# Altium integrated library Wurth_Elektronik_Passive_rev16a.IntLib: 1143 symbols (part 10 of 28)
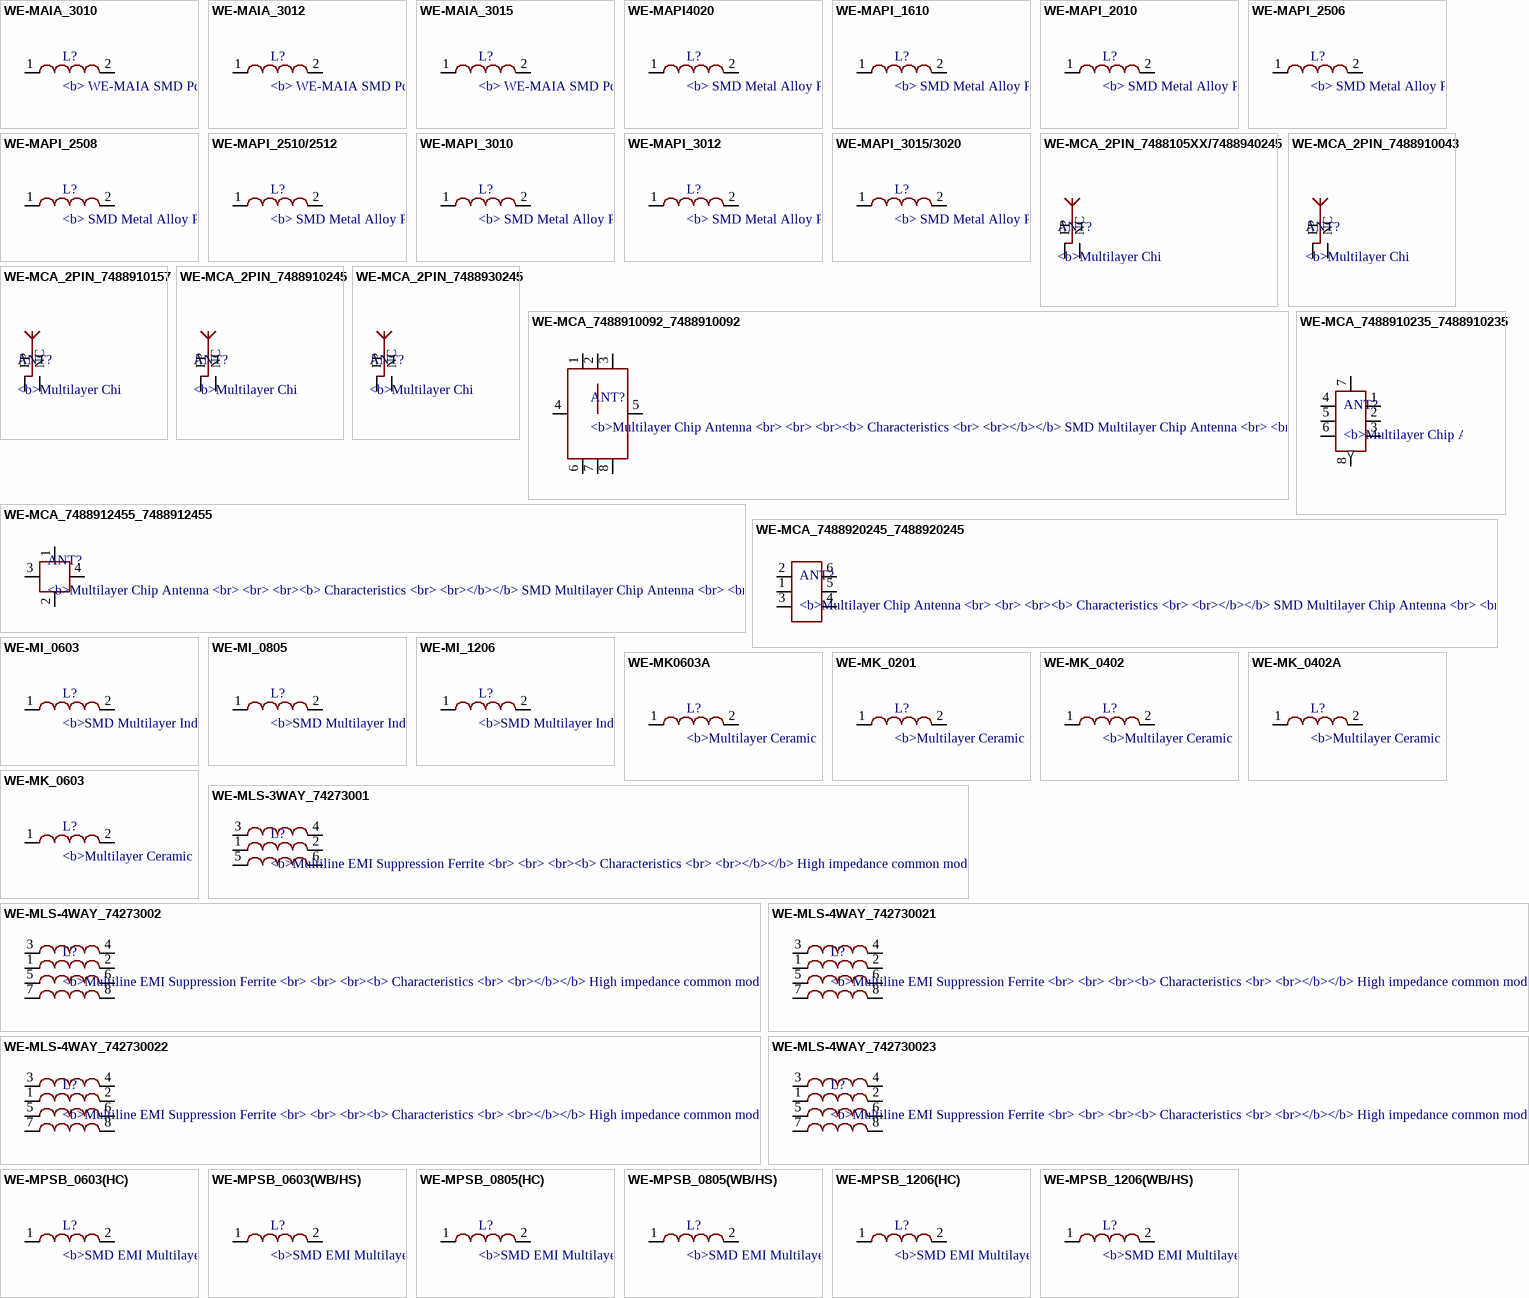
[diagram p67: symbols WE-MAIA_3010 to WE-MPSB_1206(WB/HS)]

## WE-MPSB_0603(WB/HS)
designator L?, comment <b>SMD EMI Multilayer Power Suppression Bead / <br> / <br> / <br><b> Characteristics / <br> / <br></b></b> High rated current up to 10 A / <br> / <br> Operating temperature: –55 ºC to +125 ºC / <br> / <br> Very low RDC / <br> / <br> / <br><b> Applications / <br> / <br></b> 77 EMI suppression of DC/DC converters and DC power supply / <br> / <br> / <br><b>Variant abbreviation</b><br> / <br> / WB means WIDE BAND<br> / HS means HIGH SPEED<br> / HC means HIGH CURRENT<br> / <br> / <br><a href="<br><a href="http://katalog.we-online.de/media/images/eisos/FeMPSB_pf2.jpg" title="Enlarge picture"> / <img src="http://katalog.we-online.de/media/images/eisos/FeMPSB_pf2.jpg" width="320"></a><p> / Details see: <a href="http://katalog.we-online.de/en/pbs/WE-MPSB?">http://katalog.we-online.de/en/pbs/WE-MPSB?</a><p> / Updated  by  Dan Xu 2014-07-08<br> / 2014 (C) Wurth Elektronik
footprint WE-MPSB_0603(W=2.2)
pins: 1, 2

## WE-MPSB_0805(HC)
designator L?, comment <b>SMD EMI Multilayer Power Suppression Bead / <br> / <br> / <br><b> Characteristics / <br> / <br></b></b> High rated current up to 10 A / <br> / <br> Operating temperature: –55 ºC to +125 ºC / <br> / <br> Very low RDC / <br> / <br> / <br><b> Applications / <br> / <br></b> 77 EMI suppression of DC/DC converters and DC power supply / <br> / <br> / <br><b>Variant abbreviation</b><br> / <br> / WB means WIDE BAND<br> / HS means HIGH SPEED<br> / HC means HIGH CURRENT<br> / <br> / <br><a href="<br><a href="http://katalog.we-online.de/media/images/eisos/FeMPSB_pf2.jpg" title="Enlarge picture"> / <img src="http://katalog.we-online.de/media/images/eisos/FeMPSB_pf2.jpg" width="320"></a><p> / Details see: <a href="http://katalog.we-online.de/en/pbs/WE-MPSB?">http://katalog.we-online.de/en/pbs/WE-MPSB?</a><p> / Updated  by  Dan Xu 2014-07-08<br> / 2014 (C) Wurth Elektronik
footprint WE-MPSB_0805(W=4.0)
pins: 1, 2

## WE-MPSB_0805(WB/HS)
designator L?, comment <b>SMD EMI Multilayer Power Suppression Bead / <br> / <br> / <br><b> Characteristics / <br> / <br></b></b> High rated current up to 10 A / <br> / <br> Operating temperature: –55 ºC to +125 ºC / <br> / <br> Very low RDC / <br> / <br> / <br><b> Applications / <br> / <br></b> 77 EMI suppression of DC/DC converters and DC power supply / <br> / <br> / <br><b>Variant abbreviation</b><br> / <br> / WB means WIDE BAND<br> / HS means HIGH SPEED<br> / HC means HIGH CURRENT<br> / <br> / <br><a href="<br><a href="http://katalog.we-online.de/media/images/eisos/FeMPSB_pf2.jpg" title="Enlarge picture"> / <img src="http://katalog.we-online.de/media/images/eisos/FeMPSB_pf2.jpg" width="320"></a><p> / Details see: <a href="http://katalog.we-online.de/en/pbs/WE-MPSB?">http://katalog.we-online.de/en/pbs/WE-MPSB?</a><p> / Updated  by  Dan Xu 2014-07-08<br> / 2014 (C) Wurth Elektronik
footprint WE-MPSB_0805(W=3.0)
pins: 1, 2

## WE-MPSB_1206(HC)
designator L?, comment <b>SMD EMI Multilayer Power Suppression Bead / <br> / <br> / <br><b> Characteristics / <br> / <br></b></b> High rated current up to 10 A / <br> / <br> Operating temperature: –55 ºC to +125 ºC / <br> / <br> Very low RDC / <br> / <br> / <br><b> Applications / <br> / <br></b> 77 EMI suppression of DC/DC converters and DC power supply / <br> / <br> / <br><b>Variant abbreviation</b><br> / <br> / WB means WIDE BAND<br> / HS means HIGH SPEED<br> / HC means HIGH CURRENT<br> / <br> / <br><a href="<br><a href="http://katalog.we-online.de/media/images/eisos/FeMPSB_pf2.jpg" title="Enlarge picture"> / <img src="http://katalog.we-online.de/media/images/eisos/FeMPSB_pf2.jpg" width="320"></a><p> / Details see: <a href="http://katalog.we-online.de/en/pbs/WE-MPSB?">http://katalog.we-online.de/en/pbs/WE-MPSB?</a><p> / Updated  by  Dan Xu 2014-07-08<br> / 2014 (C) Wurth Elektronik
footprint WE-MPSB_1206(W=5.2)
pins: 1, 2

## WE-MPSB_1206(WB/HS)
designator L?, comment <b>SMD EMI Multilayer Power Suppression Bead / <br> / <br> / <br><b> Characteristics / <br> / <br></b></b> High rated current up to 10 A / <br> / <br> Operating temperature: –55 ºC to +125 ºC / <br> / <br> Very low RDC / <br> / <br> / <br><b> Applications / <br> / <br></b> 77 EMI suppression of DC/DC converters and DC power supply / <br> / <br> / <br><b>Variant abbreviation</b><br> / <br> / WB means WIDE BAND<br> / HS means HIGH SPEED<br> / HC means HIGH CURRENT<br> / <br> / <br><a href="<br><a href="http://katalog.we-online.de/media/images/eisos/FeMPSB_pf2.jpg" title="Enlarge picture"> / <img src="http://katalog.we-online.de/media/images/eisos/FeMPSB_pf2.jpg" width="320"></a><p> / Details see: <a href="http://katalog.we-online.de/en/pbs/WE-MPSB?">http://katalog.we-online.de/en/pbs/WE-MPSB?</a><p> / Updated  by  Dan Xu 2014-07-08<br> / 2014 (C) Wurth Elektronik
footprint WE-MPSB_1206(W=4.2)
pins: 1, 2

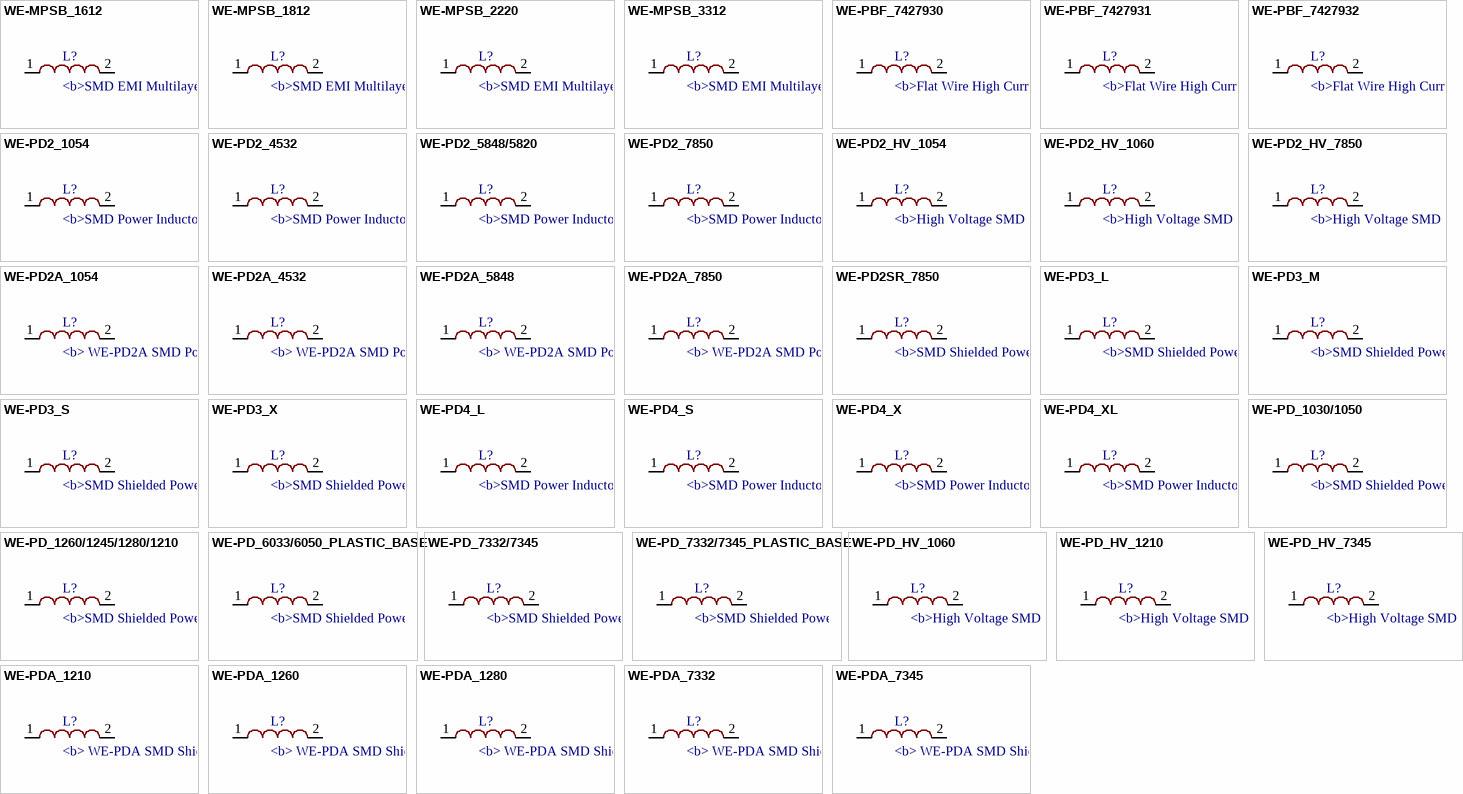
[diagram p24: symbols WE-MPSB_1612 to WE-PDA_7345]

## WE-MPSB_1612
designator L?, comment <b>SMD EMI Multilayer Power Suppression Bead / <br> / <br> / <br><b> Characteristics / <br> / <br></b></b> High rated current up to 10 A / <br> / <br> Operating temperature: –55 ºC to +125 ºC / <br> / <br> Very low RDC / <br> / <br> / <br><b> Applications / <br> / <br></b> 77 EMI suppression of DC/DC converters and DC power supply / <br> / <br> / <br><b>Variant abbreviation</b><br> / <br> / WB means WIDE BAND<br> / HS means HIGH SPEED<br> / HC means HIGH CURRENT<br> / <br> / <br><a href="<br><a href="http://katalog.we-online.de/media/images/eisos/FeMPSB_pf2.jpg" title="Enlarge picture"> / <img src="http://katalog.we-online.de/media/images/eisos/FeMPSB_pf2.jpg" width="320"></a><p> / Details see: <a href="http://katalog.we-online.de/en/pbs/WE-MPSB?">http://katalog.we-online.de/en/pbs/WE-MPSB?</a><p> / Updated  by  Dan Xu 2014-07-08<br> / 2014 (C) Wurth Elektronik
footprint WE-MPSB_1612
pins: 1, 2

## WE-MPSB_1812
designator L?, comment <b>SMD EMI Multilayer Power Suppression Bead / <br> / <br> / <br><b> Characteristics / <br> / <br></b></b> High rated current up to 10 A / <br> / <br> Operating temperature: –55 ºC to +125 ºC / <br> / <br> Very low RDC / <br> / <br> / <br><b> Applications / <br> / <br></b> 77 EMI suppression of DC/DC converters and DC power supply / <br> / <br> / <br><b>Variant abbreviation</b><br> / <br> / WB means WIDE BAND<br> / HS means HIGH SPEED<br> / HC means HIGH CURRENT<br> / <br> / <br><a href="<br><a href="http://katalog.we-online.de/media/images/eisos/FeMPSB_pf2.jpg" title="Enlarge picture"> / <img src="http://katalog.we-online.de/media/images/eisos/FeMPSB_pf2.jpg" width="320"></a><p> / Details see: <a href="http://katalog.we-online.de/en/pbs/WE-MPSB?">http://katalog.we-online.de/en/pbs/WE-MPSB?</a><p> / Updated  by  Dan Xu 2014-07-08<br> / 2014 (C) Wurth Elektronik
footprint WE-MPSB_1812
pins: 1, 2

## WE-MPSB_2220
designator L?, comment <b>SMD EMI Multilayer Power Suppression Bead / <br> / <br> / <br><b> Characteristics / <br> / <br></b></b> High rated current up to 10 A / <br> / <br> Operating temperature: –55 ºC to +125 ºC / <br> / <br> Very low RDC / <br> / <br> / <br><b> Applications / <br> / <br></b> 77 EMI suppression of DC/DC converters and DC power supply / <br> / <br> / <br><b>Variant abbreviation</b><br> / <br> / WB means WIDE BAND<br> / HS means HIGH SPEED<br> / HC means HIGH CURRENT<br> / <br> / <br><a href="<br><a href="http://katalog.we-online.de/media/images/eisos/FeMPSB_pf2.jpg" title="Enlarge picture"> / <img src="http://katalog.we-online.de/media/images/eisos/FeMPSB_pf2.jpg" width="320"></a><p> / Details see: <a href="http://katalog.we-online.de/en/pbs/WE-MPSB?">http://katalog.we-online.de/en/pbs/WE-MPSB?</a><p> / Updated  by  Dan Xu 2014-07-08<br> / 2014 (C) Wurth Elektronik
footprint WE-MPSB_2220
pins: 1, 2

## WE-MPSB_3312
designator L?, comment <b>SMD EMI Multilayer Power Suppression Bead / <br> / <br> / <br><b> Characteristics / <br> / <br></b></b> High rated current up to 10 A / <br> / <br> Operating temperature: –55 ºC to +125 ºC / <br> / <br> Very low RDC / <br> / <br> / <br><b> Applications / <br> / <br></b> 77 EMI suppression of DC/DC converters and DC power supply / <br> / <br> / <br><b>Variant abbreviation</b><br> / <br> / WB means WIDE BAND<br> / HS means HIGH SPEED<br> / HC means HIGH CURRENT<br> / <br> / <br><a href="<br><a href="http://katalog.we-online.de/media/images/eisos/FeMPSB_pf2.jpg" title="Enlarge picture"> / <img src="http://katalog.we-online.de/media/images/eisos/FeMPSB_pf2.jpg" width="320"></a><p> / Details see: <a href="http://katalog.we-online.de/en/pbs/WE-MPSB?">http://katalog.we-online.de/en/pbs/WE-MPSB?</a><p> / Updated  by  Dan Xu 2014-07-08<br> / 2014 (C) Wurth Elektronik
footprint WE-MPSB_3312
pins: 1, 2

## WE-PBF_7427930
designator L?, comment <b>Flat Wire High Current SMD Ferrite Bead / <br> / <br> / <br><b> Characteristics / <br> / <br></b></b> Flat wire / <br> / <br> Suitable for applications with high currents up to 6 A / <br> / <br> Glued version: High mechanical stability / <br> / <br> Operating temperature: –55 ºC to +125 ºC / <br> / <br> / <br><b> Applications / <br> / <br></b> Voltage supply for high load current / <br> / <br> Glued version: Especially for applications with permanent vibrations / <br> / <br> / <br> / <br><a href="<br><a href="http://katalog.we-online.de/media/images/eisos/FePBF_pf2.jpg" title="Enlarge picture"> / <img src="http://katalog.we-online.de/media/images/eisos/FePBF_pf2.jpg" width="320"></a><p> / Details see: <a href="http://katalog.we-online.de/en/pbs/WE-PBF?">http://katalog.we-online.de/en/pbs/WE-PBF?</a><p> / Updated  by  Dan Xu 2014-07-08<br> / 2014 (C) Wurth Elektronik
footprint WE-PBF_7427930
pins: 1, 2

## WE-PBF_7427931
designator L?, comment <b>Flat Wire High Current SMD Ferrite Bead / <br> / <br> / <br><b> Characteristics / <br> / <br></b></b> Flat wire / <br> / <br> Suitable for applications with high currents up to 6 A / <br> / <br> Glued version: High mechanical stability / <br> / <br> Operating temperature: –55 ºC to +125 ºC / <br> / <br> / <br><b> Applications / <br> / <br></b> Voltage supply for high load current / <br> / <br> Glued version: Especially for applications with permanent vibrations / <br> / <br> / <br> / <br><a href="<br><a href="http://katalog.we-online.de/media/images/eisos/FePBF_pf2.jpg" title="Enlarge picture"> / <img src="http://katalog.we-online.de/media/images/eisos/FePBF_pf2.jpg" width="320"></a><p> / Details see: <a href="http://katalog.we-online.de/en/pbs/WE-PBF?">http://katalog.we-online.de/en/pbs/WE-PBF?</a><p> / Updated  by  Dan Xu 2014-07-08<br> / 2014 (C) Wurth Elektronik
footprint WE-PBF_7427931
pins: 1, 2

## WE-PBF_7427932
designator L?, comment <b>Flat Wire High Current SMD Ferrite Bead / <br> / <br> / <br><b> Characteristics / <br> / <br></b></b> Flat wire / <br> / <br> Suitable for applications with high currents up to 6 A / <br> / <br> Glued version: High mechanical stability / <br> / <br> Operating temperature: –55 ºC to +125 ºC / <br> / <br> / <br><b> Applications / <br> / <br></b> Voltage supply for high load current / <br> / <br> Glued version: Especially for applications with permanent vibrations / <br> / <br> / <br> / <br><a href="<br><a href="http://katalog.we-online.de/media/images/eisos/FePBF_pf2.jpg" title="Enlarge picture"> / <img src="http://katalog.we-online.de/media/images/eisos/FePBF_pf2.jpg" width="320"></a><p> / Details see: <a href="http://katalog.we-online.de/en/pbs/WE-PBF?">http://katalog.we-online.de/en/pbs/WE-PBF?</a><p> / Updated  by  Dan Xu 2014-07-08<br> / 2014 (C) Wurth Elektronik
footprint WE-PBF_7427932
pins: 1, 2

## WE-PD2_1054
designator L?, comment <b>SMD Power Inductor / <br> / <br> / <br><b> Characteristics / <br> / <br></b></b> Open size / <br> / <br> Saturation currents up to 14 A / <br> / <br> Low tolerances at high inductance values / <br> / <br> Operating temperature: –40 °C to +125 °C / <br> / <br> / <br><b> Applications / <br> / <br></b> Integrated DC/DC-converter / <br> / <br> Switching regulators with low operating voltages (Graphic cards, embedded PC-Cards, Mainboards) / <br> / <br> Optimal attenuation in MHz frequency range / <br> / <br> / <br> / <br><a href="<br><a href="http://katalog.we-online.de/media/images/eisos/IndPD2_pf2.jpg" title="Enlarge picture"> / <img src="http://katalog.we-online.de/media/images/eisos/IndPD2_pf2.jpg" width="320"></a><p> / Details see: <a href="http://katalog.we-online.de/en/pbs/WE-PD2?">http://katalog.we-online.de/en/pbs/WE-PD2?</a><p> / Updated  by  Dan Xu 2014-07-08<br> / 2014 (C) Wurth Elektronik
footprint WE-PD2_1054
pins: 1, 2

## WE-PD2_4532
designator L?, comment <b>SMD Power Inductor / <br> / <br> / <br><b> Characteristics / <br> / <br></b></b> Open size / <br> / <br> Saturation currents up to 14 A / <br> / <br> Low tolerances at high inductance values / <br> / <br> Operating temperature: –40 °C to +125 °C / <br> / <br> / <br><b> Applications / <br> / <br></b> Integrated DC/DC-converter / <br> / <br> Switching regulators with low operating voltages (Graphic cards, embedded PC-Cards, Mainboards) / <br> / <br> Optimal attenuation in MHz frequency range / <br> / <br> / <br> / <br><a href="<br><a href="http://katalog.we-online.de/media/images/eisos/IndPD2_pf2.jpg" title="Enlarge picture"> / <img src="http://katalog.we-online.de/media/images/eisos/IndPD2_pf2.jpg" width="320"></a><p> / Details see: <a href="http://katalog.we-online.de/en/pbs/WE-PD2?">http://katalog.we-online.de/en/pbs/WE-PD2?</a><p> / Updated  by  Dan Xu 2014-07-08<br> / 2014 (C) Wurth Elektronik
footprint WE-PD2_4532
pins: 1, 2

## WE-PD2_5848/5820
designator L?, comment <b>SMD Power Inductor / <br> / <br> / <br><b> Characteristics / <br> / <br></b></b> Open size / <br> / <br> Saturation currents up to 14 A / <br> / <br> Low tolerances at high inductance values / <br> / <br> Operating temperature: –40 °C to +125 °C / <br> / <br> / <br><b> Applications / <br> / <br></b> Integrated DC/DC-converter / <br> / <br> Switching regulators with low operating voltages (Graphic cards, embedded PC-Cards, Mainboards) / <br> / <br> Optimal attenuation in MHz frequency range / <br> / <br> / <br> / <br><a href="<br><a href="http://katalog.we-online.de/media/images/eisos/IndPD2_pf2.jpg" title="Enlarge picture"> / <img src="http://katalog.we-online.de/media/images/eisos/IndPD2_pf2.jpg" width="320"></a><p> / Details see: <a href="http://katalog.we-online.de/en/pbs/WE-PD2?">http://katalog.we-online.de/en/pbs/WE-PD2?</a><p> / Updated  by  Dan Xu 2014-07-08<br> / 2014 (C) Wurth Elektronik
footprint WE-PD2_5848/5820
pins: 1, 2

## WE-PD2_7850
designator L?, comment <b>SMD Power Inductor / <br> / <br> / <br><b> Characteristics / <br> / <br></b></b> Open size / <br> / <br> Saturation currents up to 14 A / <br> / <br> Low tolerances at high inductance values / <br> / <br> Operating temperature: –40 °C to +125 °C / <br> / <br> / <br><b> Applications / <br> / <br></b> Integrated DC/DC-converter / <br> / <br> Switching regulators with low operating voltages (Graphic cards, embedded PC-Cards, Mainboards) / <br> / <br> Optimal attenuation in MHz frequency range / <br> / <br> / <br> / <br><a href="<br><a href="http://katalog.we-online.de/media/images/eisos/IndPD2_pf2.jpg" title="Enlarge picture"> / <img src="http://katalog.we-online.de/media/images/eisos/IndPD2_pf2.jpg" width="320"></a><p> / Details see: <a href="http://katalog.we-online.de/en/pbs/WE-PD2?">http://katalog.we-online.de/en/pbs/WE-PD2?</a><p> / Updated  by  Dan Xu 2014-07-08<br> / 2014 (C) Wurth Elektronik
footprint WE-PD2_7850
pins: 1, 2

## WE-PD2_HV_1054
designator L?, comment <b>High Voltage SMD Power Inductor / <br> / <br> / <br><b> Characteristics / <br> / <br></b></b> Unshielded construction / <br> / <br> Designed for 400 VDC / <br> / <br> Operating temperature: –40 °C to +125 °C / <br> / <br> / <br><b> Applications / <br> / <br></b> Non-isolated buck or buck-boost converter like Power Integrations LinkSwitch-TN / <br> / <br> Constant current LED driver / <br> / <br> Utility metering / <br> / <br> Filter for power supply / <br> / <br> / <br> / <br><a href="<br><a href="http://katalog.we-online.de/media/images/eisos/IndPD2_pf2.jpg" title="Enlarge picture"> / <img src="http://katalog.we-online.de/media/images/eisos/IndPD2_pf2.jpg" width="320"></a><p> / Details see: <a href="http://katalog.we-online.de/en/pbs/WE-PD2_HV?">http://katalog.we-online.de/en/pbs/WE-PD2_HV?</a><p> / Updated  by  Dan Xu 2014-07-08<br> / 2014 (C) Wurth Elektronik
MANUFACTURER: Würth Elektronik eiSos GmbH; CREATED-BY: Christin Otto; COMPANY-URL: http://we-online.de; CREATED-DATE: August 2013; DATASHEET-URL: http://katalog.we-online.de/de/pbs/WE-PD2_HV?sid=1d9d32b2a9#vs_ct:2
footprint WE-PD2_1054
pins: 1, 2

## WE-PD2_HV_1060
designator L?, comment <b>High Voltage SMD Power Inductor / <br> / <br> / <br><b> Characteristics / <br> / <br></b></b> Unshielded construction / <br> / <br> Designed for 400 VDC / <br> / <br> Operating temperature: –40 °C to +125 °C / <br> / <br> / <br><b> Applications / <br> / <br></b> Non-isolated buck or buck-boost converter like Power Integrations LinkSwitch-TN / <br> / <br> Constant current LED driver / <br> / <br> Utility metering / <br> / <br> Filter for power supply / <br> / <br> / <br> / <br><a href="<br><a href="http://katalog.we-online.de/media/images/eisos/IndPD2_pf2.jpg" title="Enlarge picture"> / <img src="http://katalog.we-online.de/media/images/eisos/IndPD2_pf2.jpg" width="320"></a><p> / Details see: <a href="http://katalog.we-online.de/en/pbs/WE-PD2_HV?">http://katalog.we-online.de/en/pbs/WE-PD2_HV?</a><p> / Updated  by  Dan Xu 2014-07-08<br> / 2014 (C) Wurth Elektronik
footprint WE-PD2_HV_1060
pins: 1, 2

## WE-PD2_HV_7850
designator L?, comment <b>High Voltage SMD Power Inductor / <br> / <br> / <br><b> Characteristics / <br> / <br></b></b> Unshielded construction / <br> / <br> Designed for 400 VDC / <br> / <br> Operating temperature: –40 °C to +125 °C / <br> / <br> / <br><b> Applications / <br> / <br></b> Non-isolated buck or buck-boost converter like Power Integrations LinkSwitch-TN / <br> / <br> Constant current LED driver / <br> / <br> Utility metering / <br> / <br> Filter for power supply / <br> / <br> / <br> / <br><a href="<br><a href="http://katalog.we-online.de/media/images/eisos/IndPD2_pf2.jpg" title="Enlarge picture"> / <img src="http://katalog.we-online.de/media/images/eisos/IndPD2_pf2.jpg" width="320"></a><p> / Details see: <a href="http://katalog.we-online.de/en/pbs/WE-PD2_HV?">http://katalog.we-online.de/en/pbs/WE-PD2_HV?</a><p> / Updated  by  Dan Xu 2014-07-08<br> / 2014 (C) Wurth Elektronik
MANUFACTURER: Würth Elektronik eiSos GmbH; CREATED-BY: Christin Otto; COMPANY-URL: http://we-online.de; CREATED-DATE: August 2013; DATASHEET-URL: http://katalog.we-online.de/de/pbs/WE-PD2_HV?sid=27407868f1#vs_ct:1
footprint WE-PD2_7850
pins: 1, 2

## WE-PD2A_1054
designator L?, comment <b> WE-PD2A SMD Power Inductor / <br> / <br><b>Characteristics / </b> / </b><br>Open size / <br>Current capability up to 14A / <br>Operating temperature:-40°C  to 125°C / <br>Recommended soder profile: Reflow / <br> / <br><b>Applications / </b><br>switching regulators with low operating voltage (navigation system, air conditioning, entertainment, park assistance control) / <br>Integrated DC/DC-converter / <br>Perfectly suitable for switching regulators with extremely high efficiency / <br> / <br><a href="http://katalog.we-online.de/media/images/eisos/IndPD2A_pf2.jpg" title="Enlarge picture"> / <img src="http://katalog.we-online.de/media/thumbs2/eisos/thb_IndPD2A_pf2.jpg" width="320"></a><p> / Details see: <a href="http://katalog.we-online.de/en/pbs/WE-PD2A/">http://katalog.we-online.de/en/pbs/WE-PD2A/ / </a><p>Created: 2015-02-04 / <br>2015 (C) Wurth Elektronik
footprint WE-PD2A_1054
pins: 1, 2

## WE-PD2A_4532
designator L?, comment <b> WE-PD2A SMD Power Inductor / <br> / <br><b>Characteristics / </b> / </b><br>Open size / <br>Current capability up to 14A / <br>Operating temperature:-40°C  to 125°C / <br>Recommended soder profile: Reflow / <br> / <br><b>Applications / </b><br>switching regulators with low operating voltage (navigation system, air conditioning, entertainment, park assistance control) / <br>Integrated DC/DC-converter / <br>Perfectly suitable for switching regulators with extremely high efficiency / <br> / <br><a href="http://katalog.we-online.de/media/images/eisos/IndPD2A_pf2.jpg" title="Enlarge picture"> / <img src="http://katalog.we-online.de/media/thumbs2/eisos/thb_IndPD2A_pf2.jpg" width="320"></a><p> / Details see: <a href="http://katalog.we-online.de/en/pbs/WE-PD2A/">http://katalog.we-online.de/en/pbs/WE-PD2A/ / </a><p>Created: 2015-02-04 / <br>2015 (C) Wurth Elektronik
footprint WE-PD2A_4532
pins: 1, 2

## WE-PD2A_5848
designator L?, comment <b> WE-PD2A SMD Power Inductor / <br> / <br><b>Characteristics / </b> / </b><br>Open size / <br>Current capability up to 14A / <br>Operating temperature:-40°C  to 125°C / <br>Recommended soder profile: Reflow / <br> / <br><b>Applications / </b><br>switching regulators with low operating voltage (navigation system, air conditioning, entertainment, park assistance control) / <br>Integrated DC/DC-converter / <br>Perfectly suitable for switching regulators with extremely high efficiency / <br> / <br><a href="http://katalog.we-online.de/media/images/eisos/IndPD2A_pf2.jpg" title="Enlarge picture"> / <img src="http://katalog.we-online.de/media/thumbs2/eisos/thb_IndPD2A_pf2.jpg" width="320"></a><p> / Details see: <a href="http://katalog.we-online.de/en/pbs/WE-PD2A/">http://katalog.we-online.de/en/pbs/WE-PD2A/ / </a><p>Created: 2015-02-04 / <br>2015 (C) Wurth Elektronik
footprint WE-PD2A_5848
pins: 1, 2

## WE-PD2A_7850
designator L?, comment <b> WE-PD2A SMD Power Inductor / <br> / <br><b>Characteristics / </b> / </b><br>Open size / <br>Current capability up to 14A / <br>Operating temperature:-40°C  to 125°C / <br>Recommended soder profile: Reflow / <br> / <br><b>Applications / </b><br>switching regulators with low operating voltage (navigation system, air conditioning, entertainment, park assistance control) / <br>Integrated DC/DC-converter / <br>Perfectly suitable for switching regulators with extremely high efficiency / <br> / <br><a href="http://katalog.we-online.de/media/images/eisos/IndPD2A_pf2.jpg" title="Enlarge picture"> / <img src="http://katalog.we-online.de/media/thumbs2/eisos/thb_IndPD2A_pf2.jpg" width="320"></a><p> / Details see: <a href="http://katalog.we-online.de/en/pbs/WE-PD2A/">http://katalog.we-online.de/en/pbs/WE-PD2A/ / </a><p>Created: 2015-02-04 / <br>2015 (C) Wurth Elektronik
footprint WE-PD2A_7850
pins: 1, 2

## WE-PD2SR_7850
designator L?, comment <b>SMD Shielded Power Inductor / <br> / <br> / <br><b> Characteristics / <br> / <br></b></b> Magnetic shielded version from the WE-PD2, which results in a low leakage field / <br> / <br> High saturation current due the self-centering shielding ring construction / <br> / <br> Pin compatible with the PD2 size 7850 / <br> / <br> Recommended solder profile: Reflow / <br> / <br> Operating temperature: –40 °C up to +125 °C / <br> / <br> / <br><b> Applications / <br> / <br></b> Switching regulators with low operation voltage like in portable devices / <br> / <br> / <br> / <br><a href="<br><a href="http://katalog.we-online.de/media/images/eisos/IndPD2SR_pf2.jpg" title="Enlarge picture"> / <img src="http://katalog.we-online.de/media/images/eisos/IndPD2SR_pf2.jpg" width="320"></a><p> / Details see: <a href="http://katalog.we-online.de/en/pbs/WE-PD2SR?">http://katalog.we-online.de/en/pbs/WE-PD2SR?</a><p> / Updated  by  Dan Xu 2014-07-08<br> / 2014 (C) Wurth Elektronik
MANUFACTURER: Würth Elektronik eiSos GmbH; CREATED-BY: Christin Otto; COMPANY-URL: http://www.we-online.de; CREATED-DATE: August 2013; DATASHEET-URL: http://katalog.we-online.de/de/pbs/WE-PD2SR?sid=c66c462997
footprint WE-PD2SR_7850
pins: 1, 2

## WE-PD3_L
designator L?, comment <b>SMD Shielded Power Inductor / <br> / <br> / <br><b> Characteristics / <br> / <br></b></b> Magnetically shielded version which results in a low leakage field / <br> / <br> Working frequency up to 10 MHz / <br> / <br> Operating temperature: –40 °C to +125 °C / <br> / <br> / <br><b> Applications / <br> / <br></b> EMI-filter / <br> / <br> Perfectly suitable for switching regulators e.g. National Semiconductor, Linear Technology, Texas Instruments, Maxim, Semtech, ON Semiconductor, Cologne Chip, STMicroelectronics, Maxim, MPS, Diodes, Analogic Tech and Exar / <br> / <br> / <br> / <br><a href="<br><a href="http://katalog.we-online.de/media/images/eisos/IndPD3_pf2.jpg" title="Enlarge picture"> / <img src="http://katalog.we-online.de/media/images/eisos/IndPD3_pf2.jpg" width="320"></a><p> / Details see: <a href="http://katalog.we-online.de/en/pbs/WE-PD3?">http://katalog.we-online.de/en/pbs/WE-PD3?</a><p> / Updated  by  Dan Xu 2014-07-08<br> / 2014 (C) Wurth Elektronik
footprint L
pins: 1, 2

## WE-PD3_M
designator L?, comment <b>SMD Shielded Power Inductor / <br> / <br> / <br><b> Characteristics / <br> / <br></b></b> Magnetically shielded version which results in a low leakage field / <br> / <br> Working frequency up to 10 MHz / <br> / <br> Operating temperature: –40 °C to +125 °C / <br> / <br> / <br><b> Applications / <br> / <br></b> EMI-filter / <br> / <br> Perfectly suitable for switching regulators e.g. National Semiconductor, Linear Technology, Texas Instruments, Maxim, Semtech, ON Semiconductor, Cologne Chip, STMicroelectronics, Maxim, MPS, Diodes, Analogic Tech and Exar / <br> / <br> / <br> / <br><a href="<br><a href="http://katalog.we-online.de/media/images/eisos/IndPD3_pf2.jpg" title="Enlarge picture"> / <img src="http://katalog.we-online.de/media/images/eisos/IndPD3_pf2.jpg" width="320"></a><p> / Details see: <a href="http://katalog.we-online.de/en/pbs/WE-PD3?">http://katalog.we-online.de/en/pbs/WE-PD3?</a><p> / Updated  by  Dan Xu 2014-07-08<br> / 2014 (C) Wurth Elektronik
footprint M
pins: 1, 2

## WE-PD3_S
designator L?, comment <b>SMD Shielded Power Inductor / <br> / <br> / <br><b> Characteristics / <br> / <br></b></b> Magnetically shielded version which results in a low leakage field / <br> / <br> Working frequency up to 10 MHz / <br> / <br> Operating temperature: –40 °C to +125 °C / <br> / <br> / <br><b> Applications / <br> / <br></b> EMI-filter / <br> / <br> Perfectly suitable for switching regulators e.g. National Semiconductor, Linear Technology, Texas Instruments, Maxim, Semtech, ON Semiconductor, Cologne Chip, STMicroelectronics, Maxim, MPS, Diodes, Analogic Tech and Exar / <br> / <br> / <br> / <br><a href="<br><a href="http://katalog.we-online.de/media/images/eisos/IndPD3_pf2.jpg" title="Enlarge picture"> / <img src="http://katalog.we-online.de/media/images/eisos/IndPD3_pf2.jpg" width="320"></a><p> / Details see: <a href="http://katalog.we-online.de/en/pbs/WE-PD3?">http://katalog.we-online.de/en/pbs/WE-PD3?</a><p> / Updated  by  Dan Xu 2014-07-08<br> / 2014 (C) Wurth Elektronik
footprint S
pins: 1, 2

## WE-PD3_X
designator L?, comment <b>SMD Shielded Power Inductor / <br> / <br> / <br><b> Characteristics / <br> / <br></b></b> Magnetically shielded version which results in a low leakage field / <br> / <br> Working frequency up to 10 MHz / <br> / <br> Operating temperature: –40 °C to +125 °C / <br> / <br> / <br><b> Applications / <br> / <br></b> EMI-filter / <br> / <br> Perfectly suitable for switching regulators e.g. National Semiconductor, Linear Technology, Texas Instruments, Maxim, Semtech, ON Semiconductor, Cologne Chip, STMicroelectronics, Maxim, MPS, Diodes, Analogic Tech and Exar / <br> / <br> / <br> / <br><a href="<br><a href="http://katalog.we-online.de/media/images/eisos/IndPD3_pf2.jpg" title="Enlarge picture"> / <img src="http://katalog.we-online.de/media/images/eisos/IndPD3_pf2.jpg" width="320"></a><p> / Details see: <a href="http://katalog.we-online.de/en/pbs/WE-PD3?">http://katalog.we-online.de/en/pbs/WE-PD3?</a><p> / Updated  by  Dan Xu 2014-07-08<br> / 2014 (C) Wurth Elektronik
footprint X
pins: 1, 2

## WE-PD4_L
designator L?, comment <b>SMD Power Inductor / <br> / <br> / <br><b> / <br> / <br></b></b> Current loading up to 38 A / <br> / <br> Compact size / <br> / <br> Low-loss ferrite core / <br> / <br> Application frequency range up to 10 MHz / <br> / <br> Operating temperature: –40 °C to +125 °C / <br> / <br> / <br><b> Applications / <br> / <br></b> Noise suppression / <br> / <br> Perfectly suitable for switching regulators e.g. National Semiconductor, Linear Technology, Maxim, Semtech, Texas Instruments, Fairchild Semiconductor, Cologne Chip, ON Semiconductor, STMicroelectronics, MPS, Exar, Analogic Tech and Diodes / <br> / <br> / <br> / <br><a href="<br><a href="http://katalog.we-online.de/media/images/eisos/IndPD4_pf2.jpg" title="Enlarge picture"> / <img src="http://katalog.we-online.de/media/images/eisos/IndPD4_pf2.jpg" width="320"></a><p> / Details see: <a href="http://katalog.we-online.de/en/pbs/WE-PD4?">http://katalog.we-online.de/en/pbs/WE-PD4?</a><p> / Updated  by  Dan Xu 2014-07-08<br> / 2014 (C) Wurth Elektronik
footprint L
pins: 1, 2

## WE-PD4_S
designator L?, comment <b>SMD Power Inductor / <br> / <br> / <br><b> / <br> / <br></b></b> Current loading up to 38 A / <br> / <br> Compact size / <br> / <br> Low-loss ferrite core / <br> / <br> Application frequency range up to 10 MHz / <br> / <br> Operating temperature: –40 °C to +125 °C / <br> / <br> / <br><b> Applications / <br> / <br></b> Noise suppression / <br> / <br> Perfectly suitable for switching regulators e.g. National Semiconductor, Linear Technology, Maxim, Semtech, Texas Instruments, Fairchild Semiconductor, Cologne Chip, ON Semiconductor, STMicroelectronics, MPS, Exar, Analogic Tech and Diodes / <br> / <br> / <br> / <br><a href="<br><a href="http://katalog.we-online.de/media/images/eisos/IndPD4_pf2.jpg" title="Enlarge picture"> / <img src="http://katalog.we-online.de/media/images/eisos/IndPD4_pf2.jpg" width="320"></a><p> / Details see: <a href="http://katalog.we-online.de/en/pbs/WE-PD4?">http://katalog.we-online.de/en/pbs/WE-PD4?</a><p> / Updated  by  Dan Xu 2014-07-08<br> / 2014 (C) Wurth Elektronik
footprint S
pins: 1, 2

## WE-PD4_X
designator L?, comment <b>SMD Power Inductor / <br> / <br> / <br><b> / <br> / <br></b></b> Current loading up to 38 A / <br> / <br> Compact size / <br> / <br> Low-loss ferrite core / <br> / <br> Application frequency range up to 10 MHz / <br> / <br> Operating temperature: –40 °C to +125 °C / <br> / <br> / <br><b> Applications / <br> / <br></b> Noise suppression / <br> / <br> Perfectly suitable for switching regulators e.g. National Semiconductor, Linear Technology, Maxim, Semtech, Texas Instruments, Fairchild Semiconductor, Cologne Chip, ON Semiconductor, STMicroelectronics, MPS, Exar, Analogic Tech and Diodes / <br> / <br> / <br> / <br><a href="<br><a href="http://katalog.we-online.de/media/images/eisos/IndPD4_pf2.jpg" title="Enlarge picture"> / <img src="http://katalog.we-online.de/media/images/eisos/IndPD4_pf2.jpg" width="320"></a><p> / Details see: <a href="http://katalog.we-online.de/en/pbs/WE-PD4?">http://katalog.we-online.de/en/pbs/WE-PD4?</a><p> / Updated  by  Dan Xu 2014-07-08<br> / 2014 (C) Wurth Elektronik
footprint X
pins: 1, 2

## WE-PD4_XL
designator L?, comment <b>SMD Power Inductor / <br> / <br> / <br><b> / <br> / <br></b></b> Current loading up to 38 A / <br> / <br> Compact size / <br> / <br> Low-loss ferrite core / <br> / <br> Application frequency range up to 10 MHz / <br> / <br> Operating temperature: –40 °C to +125 °C / <br> / <br> / <br><b> Applications / <br> / <br></b> Noise suppression / <br> / <br> Perfectly suitable for switching regulators e.g. National Semiconductor, Linear Technology, Maxim, Semtech, Texas Instruments, Fairchild Semiconductor, Cologne Chip, ON Semiconductor, STMicroelectronics, MPS, Exar, Analogic Tech and Diodes / <br> / <br> / <br> / <br><a href="<br><a href="http://katalog.we-online.de/media/images/eisos/IndPD4_pf2.jpg" title="Enlarge picture"> / <img src="http://katalog.we-online.de/media/images/eisos/IndPD4_pf2.jpg" width="320"></a><p> / Details see: <a href="http://katalog.we-online.de/en/pbs/WE-PD4?">http://katalog.we-online.de/en/pbs/WE-PD4?</a><p> / Updated  by  Dan Xu 2014-07-08<br> / 2014 (C) Wurth Elektronik
footprint XL
pins: 1, 2

## WE-PD_1030/1050
designator L?, comment <b>SMD Shielded Power Inductor / <br> / <br> / <br><b> Characteristics / <br> / <br></b></b> Magnetically shielded version which results in a low leakage field / <br> / <br> High Saturation currents up to 25 A / <br> / <br> Very low self-losses at high switching frequency‘s / <br> / <br> Wide inductances spectrum available at all sizes / <br> / <br> Operating temperature: –40 °C to +125 °C / <br> / <br> / <br><b> Applications / <br> / <br></b> Perfectly suitable for switching regulators with extremely high efficiency / <br> / <br> Integrated DC/DC- converter / <br> / <br> Switching regulators with low operating voltages (Graphic cards, embedded PC-Cards, Mainboards) / <br> / <br> Plastic base: Because of the one piece construction these are more suitable for high vibration or shock applications / <br> / <br> / <br> / <br><a href="<br><a href="http://katalog.we-online.de/media/images/eisos/FePBF_pf2.jpg" title="Enlarge picture"> / <img src="http://katalog.we-online.de/media/images/eisos/IndPD_pf2.jpg" width="320"></a><p> / Details see: <a href="http://katalog.we-online.de/en/pbs/WE-PD?">http://katalog.we-online.de/en/pbs/WE-PD?</a><p> / Updated  by  Dan Xu 2014-07-08<br> / 2014 (C) Wurth Elektronik
footprint WE-PD_1030/1050
pins: 1, 2

## WE-PD_1260/1245/1280/1210
designator L?, comment <b>SMD Shielded Power Inductor / <br> / <br> / <br><b> Characteristics / <br> / <br></b></b> Magnetically shielded version which results in a low leakage field / <br> / <br> High Saturation currents up to 25 A / <br> / <br> Very low self-losses at high switching frequency‘s / <br> / <br> Wide inductances spectrum available at all sizes / <br> / <br> Operating temperature: –40 °C to +125 °C / <br> / <br> / <br><b> Applications / <br> / <br></b> Perfectly suitable for switching regulators with extremely high efficiency / <br> / <br> Integrated DC/DC- converter / <br> / <br> Switching regulators with low operating voltages (Graphic cards, embedded PC-Cards, Mainboards) / <br> / <br> Plastic base: Because of the one piece construction these are more suitable for high vibration or shock applications / <br> / <br> / <br> / <br><a href="<br><a href="http://katalog.we-online.de/media/images/eisos/FePBF_pf2.jpg" title="Enlarge picture"> / <img src="http://katalog.we-online.de/media/images/eisos/IndPD_pf2.jpg" width="320"></a><p> / Details see: <a href="http://katalog.we-online.de/en/pbs/WE-PD?">http://katalog.we-online.de/en/pbs/WE-PD?</a><p> / Updated  by  Dan Xu 2014-07-08<br> / 2014 (C) Wurth Elektronik
footprint WE-PD_1260/1245/1280/1210
pins: 1, 2

## WE-PD_6033/6050_PLASTIC_BASE
designator L?, comment <b>SMD Shielded Power Inductor / <br> / <br> / <br><b> Characteristics / <br> / <br></b></b> Magnetically shielded version which results in a low leakage field / <br> / <br> High Saturation currents up to 25 A / <br> / <br> Very low self-losses at high switching frequency‘s / <br> / <br> Wide inductances spectrum available at all sizes / <br> / <br> Operating temperature: –40 °C to +125 °C / <br> / <br> / <br><b> Applications / <br> / <br></b> Perfectly suitable for switching regulators with extremely high efficiency / <br> / <br> Integrated DC/DC- converter / <br> / <br> Switching regulators with low operating voltages (Graphic cards, embedded PC-Cards, Mainboards) / <br> / <br> Plastic base: Because of the one piece construction these are more suitable for high vibration or shock applications / <br> / <br> / <br> / <br><a href="<br><a href="http://katalog.we-online.de/media/images/eisos/FePBF_pf2.jpg" title="Enlarge picture"> / <img src="http://katalog.we-online.de/media/images/eisos/IndPD_pf2.jpg" width="320"></a><p> / Details see: <a href="http://katalog.we-online.de/en/pbs/WE-PD?">http://katalog.we-online.de/en/pbs/WE-PD?</a><p> / Updated  by  Dan Xu 2014-07-08<br> / 2014 (C) Wurth Elektronik
footprint WE-PD_6033/6050_PLASTIC_BASE
pins: 1, 2

## WE-PD_7332/7345
designator L?, comment <b>SMD Shielded Power Inductor / <br> / <br> / <br><b> Characteristics / <br> / <br></b></b> Magnetically shielded version which results in a low leakage field / <br> / <br> High Saturation currents up to 25 A / <br> / <br> Very low self-losses at high switching frequency‘s / <br> / <br> Wide inductances spectrum available at all sizes / <br> / <br> Operating temperature: –40 °C to +125 °C / <br> / <br> / <br><b> Applications / <br> / <br></b> Perfectly suitable for switching regulators with extremely high efficiency / <br> / <br> Integrated DC/DC- converter / <br> / <br> Switching regulators with low operating voltages (Graphic cards, embedded PC-Cards, Mainboards) / <br> / <br> Plastic base: Because of the one piece construction these are more suitable for high vibration or shock applications / <br> / <br> / <br> / <br><a href="<br><a href="http://katalog.we-online.de/media/images/eisos/FePBF_pf2.jpg" title="Enlarge picture"> / <img src="http://katalog.we-online.de/media/images/eisos/IndPD_pf2.jpg" width="320"></a><p> / Details see: <a href="http://katalog.we-online.de/en/pbs/WE-PD?">http://katalog.we-online.de/en/pbs/WE-PD?</a><p> / Updated  by  Dan Xu 2014-07-08<br> / 2014 (C) Wurth Elektronik
footprint WE-PD_7332/7345
pins: 1, 2

## WE-PD_7332/7345_PLASTIC_BASE
designator L?, comment <b>SMD Shielded Power Inductor / <br> / <br> / <br><b> Characteristics / <br> / <br></b></b> Magnetically shielded version which results in a low leakage field / <br> / <br> High Saturation currents up to 25 A / <br> / <br> Very low self-losses at high switching frequency‘s / <br> / <br> Wide inductances spectrum available at all sizes / <br> / <br> Operating temperature: –40 °C to +125 °C / <br> / <br> / <br><b> Applications / <br> / <br></b> Perfectly suitable for switching regulators with extremely high efficiency / <br> / <br> Integrated DC/DC- converter / <br> / <br> Switching regulators with low operating voltages (Graphic cards, embedded PC-Cards, Mainboards) / <br> / <br> Plastic base: Because of the one piece construction these are more suitable for high vibration or shock applications / <br> / <br> / <br> / <br><a href="<br><a href="http://katalog.we-online.de/media/images/eisos/FePBF_pf2.jpg" title="Enlarge picture"> / <img src="http://katalog.we-online.de/media/images/eisos/IndPD_pf2.jpg" width="320"></a><p> / Details see: <a href="http://katalog.we-online.de/en/pbs/WE-PD?">http://katalog.we-online.de/en/pbs/WE-PD?</a><p> / Updated  by  Dan Xu 2014-07-08<br> / 2014 (C) Wurth Elektronik
footprint WE-PD_7332/7345_PLASTIC_BASE
pins: 1, 2

## WE-PD_HV_1060
designator L?, comment <b>High Voltage SMD Power Inductor / <br> / <br> / <br><b> Characteristics / <br> / <br></b></b> Shielded part for ideal wire protection / <br> / <br> Operating Temperature: –40 °C to +125 °C / <br> / <br> Magnetically schielded / <br> / <br> Designed for 400 VDC Applications / <br> / <br> / <br><b> Applications / <br> / <br></b> Non-isolated buck or buck-boost converter like Power Integrations LinkSwitch-TN / <br> / <br> Constant current LED driver / <br> / <br> Utility metering / <br> / <br> Filter for power supply / <br> / <br> / <br><a href="<br><a href="http://katalog.we-online.de/media/images/eisos/IndPDHV_pf2.jpg" title="Enlarge picture"> / <img src="http://katalog.we-online.de/media/images/eisos/IndPDHV_pf2.jpg" width="320"></a><p> / Details see: <a href="http://katalog.we-online.de/en/pbs/WE-PD_HV?">http://katalog.we-online.de/en/pbs/WE-PD_HV?</a><p> / Updated  by  Dan Xu 2014-07-08<br> / 2014 (C) Wurth Elektronik
MANUFACTRUER: Würth Elektronik eiSos GmbH; CREATED-BY: Christin Otto; COMPANY-URL: http://we-online.de; CREATED-DATE: August 2013; DATASHEET-URL: http://katalog.we-online.de/de/pbs/WE-PD_HV?sid=723d840c1d#vs_ct:1
footprint WE-PD_HV_1060
pins: 1, 2

## WE-PD_HV_1210
designator L?, comment <b>High Voltage SMD Power Inductor / <br> / <br> / <br><b> Characteristics / <br> / <br></b></b> Shielded part for ideal wire protection / <br> / <br> Operating Temperature: –40 °C to +125 °C / <br> / <br> Magnetically schielded / <br> / <br> Designed for 400 VDC Applications / <br> / <br> / <br><b> Applications / <br> / <br></b> Non-isolated buck or buck-boost converter like Power Integrations LinkSwitch-TN / <br> / <br> Constant current LED driver / <br> / <br> Utility metering / <br> / <br> Filter for power supply / <br> / <br> / <br><a href="<br><a href="http://katalog.we-online.de/media/images/eisos/IndPDHV_pf2.jpg" title="Enlarge picture"> / <img src="http://katalog.we-online.de/media/images/eisos/IndPDHV_pf2.jpg" width="320"></a><p> / Details see: <a href="http://katalog.we-online.de/en/pbs/WE-PD_HV?">http://katalog.we-online.de/en/pbs/WE-PD_HV?</a><p> / Updated  by  Dan Xu 2014-07-08<br> / 2014 (C) Wurth Elektronik
MANUFACTURER: Würth Elektronik eiSos GmbH; CREATED-BY: Christin Otto; COMPANY-URL: http://we-online.de; CREATE-DATE: August 2013; DATASHEET-URL: http://katalog.we-online.de/de/pbs/WE-PD_HV?sid=723d840c1d#vs_ct:2
footprint WE-PD_1260/1245/1280/1210
pins: 1, 2

## WE-PD_HV_7345
designator L?, comment <b>High Voltage SMD Power Inductor / <br> / <br> / <br><b> Characteristics / <br> / <br></b></b> Shielded part for ideal wire protection / <br> / <br> Operating Temperature: –40 °C to +125 °C / <br> / <br> Magnetically schielded / <br> / <br> Designed for 400 VDC Applications / <br> / <br> / <br><b> Applications / <br> / <br></b> Non-isolated buck or buck-boost converter like Power Integrations LinkSwitch-TN / <br> / <br> Constant current LED driver / <br> / <br> Utility metering / <br> / <br> Filter for power supply / <br> / <br> / <br><a href="<br><a href="http://katalog.we-online.de/media/images/eisos/IndPDHV_pf2.jpg" title="Enlarge picture"> / <img src="http://katalog.we-online.de/media/images/eisos/IndPDHV_pf2.jpg" width="320"></a><p> / Details see: <a href="http://katalog.we-online.de/en/pbs/WE-PD_HV?">http://katalog.we-online.de/en/pbs/WE-PD_HV?</a><p> / Updated  by  Dan Xu 2014-07-08<br> / 2014 (C) Wurth Elektronik
MANUFACTURER: Würth Elektronik eiSos GmbH; CREATED-BY: Christin Otto; COMPANY-URL: http://we-online.de; CREATED-DATE: August 2013; DATASHEET-URL: http://katalog.we-online.de/de/pbs/WE-PD_HV?sid=723d840c1d#vs_ct:3
footprint WE-PD_7332/7345_PLASTIC_BASE
pins: 1, 2

## WE-PDA_1210
designator L?, comment <b> WE-PDA SMD Shielded Power Inductor / <br></B> / <br><b>Characteristics / </b><br>Wire connection:welding technology / <br>Operating temperature:-40°C up to 125°C / <br>Highest possible current loading for SMD Inductors / <br>Magnetically shielded version which results in a low leakage field High storage capacity / <br>Low self-losses / <br>Core Material:NiZn / <br> / <br><b>Applications / </b><br>Multimedia applications / <br>Switching regulators with low operating voltages (Computer, Notebook, smart phones) / <br>Integrated DC/DC-converter / <br>Perfect suitable for switching regulators with exrtemely high efficiency (>86%) / <br> / <br> / <br><a href="http://katalog.we-online.de/media/images/eisos/IndPDA_pf2.jpg" title="Enlarge picture"> / <img src="http://katalog.we-online.de/media/thumbs2/eisos/thb_IndPDA_pf2.jpg" width="320"></a><p> / Details see: <a href="http://katalog.we-online.de/en/pbs/WE-PDA/">http://katalog.we-online.de/en/pbs/WE-PDA/ / </a><p>Created: 2015-01-30 / <br>2015 (C) Wurth Elektronik
footprint WE-PDA_1210
pins: 1, 2

## WE-PDA_1260
designator L?, comment <b> WE-PDA SMD Shielded Power Inductor / <br></B> / <br><b>Characteristics / </b><br>Wire connection:welding technology / <br>Operating temperature:-40°C up to 125°C / <br>Highest possible current loading for SMD Inductors / <br>Magnetically shielded version which results in a low leakage field High storage capacity / <br>Low self-losses / <br>Core Material:NiZn / <br> / <br><b>Applications / </b><br>Multimedia applications / <br>Switching regulators with low operating voltages (Computer, Notebook, smart phones) / <br>Integrated DC/DC-converter / <br>Perfect suitable for switching regulators with exrtemely high efficiency (>86%) / <br> / <br> / <br><a href="http://katalog.we-online.de/media/images/eisos/IndPDA_pf2.jpg" title="Enlarge picture"> / <img src="http://katalog.we-online.de/media/thumbs2/eisos/thb_IndPDA_pf2.jpg" width="320"></a><p> / Details see: <a href="http://katalog.we-online.de/en/pbs/WE-PDA/">http://katalog.we-online.de/en/pbs/WE-PDA/ / </a><p>Created: 2015-01-30 / <br>2015 (C) Wurth Elektronik
footprint WE-PDA_1260
pins: 1, 2

## WE-PDA_1280
designator L?, comment <b> WE-PDA SMD Shielded Power Inductor / <br></B> / <br><b>Characteristics / </b><br>Wire connection:welding technology / <br>Operating temperature:-40°C up to 125°C / <br>Highest possible current loading for SMD Inductors / <br>Magnetically shielded version which results in a low leakage field High storage capacity / <br>Low self-losses / <br>Core Material:NiZn / <br> / <br><b>Applications / </b><br>Multimedia applications / <br>Switching regulators with low operating voltages (Computer, Notebook, smart phones) / <br>Integrated DC/DC-converter / <br>Perfect suitable for switching regulators with exrtemely high efficiency (>86%) / <br> / <br> / <br><a href="http://katalog.we-online.de/media/images/eisos/IndPDA_pf2.jpg" title="Enlarge picture"> / <img src="http://katalog.we-online.de/media/thumbs2/eisos/thb_IndPDA_pf2.jpg" width="320"></a><p> / Details see: <a href="http://katalog.we-online.de/en/pbs/WE-PDA/">http://katalog.we-online.de/en/pbs/WE-PDA/ / </a><p>Created: 2015-01-30 / <br>2015 (C) Wurth Elektronik
footprint WE-PDA_1280
pins: 1, 2

## WE-PDA_7332
designator L?, comment <b> WE-PDA SMD Shielded Power Inductor / <br></B> / <br><b>Characteristics / </b><br>Wire connection:welding technology / <br>Operating temperature:-40°C up to 125°C / <br>Highest possible current loading for SMD Inductors / <br>Magnetically shielded version which results in a low leakage field High storage capacity / <br>Low self-losses / <br>Core Material:NiZn / <br> / <br><b>Applications / </b><br>Multimedia applications / <br>Switching regulators with low operating voltages (Computer, Notebook, smart phones) / <br>Integrated DC/DC-converter / <br>Perfect suitable for switching regulators with exrtemely high efficiency (>86%) / <br> / <br> / <br><a href="http://katalog.we-online.de/media/images/eisos/IndPDA_pf2.jpg" title="Enlarge picture"> / <img src="http://katalog.we-online.de/media/thumbs2/eisos/thb_IndPDA_pf2.jpg" width="320"></a><p> / Details see: <a href="http://katalog.we-online.de/en/pbs/WE-PDA/">http://katalog.we-online.de/en/pbs/WE-PDA/ / </a><p>Created: 2015-01-30 / <br>2015 (C) Wurth Elektronik
footprint WE-PDA_7332
pins: 1, 2

## WE-PDA_7345
designator L?, comment <b> WE-PDA SMD Shielded Power Inductor / <br></B> / <br><b>Characteristics / </b><br>Wire connection:welding technology / <br>Operating temperature:-40°C up to 125°C / <br>Highest possible current loading for SMD Inductors / <br>Magnetically shielded version which results in a low leakage field High storage capacity / <br>Low self-losses / <br>Core Material:NiZn / <br> / <br><b>Applications / </b><br>Multimedia applications / <br>Switching regulators with low operating voltages (Computer, Notebook, smart phones) / <br>Integrated DC/DC-converter / <br>Perfect suitable for switching regulators with exrtemely high efficiency (>86%) / <br> / <br> / <br><a href="http://katalog.we-online.de/media/images/eisos/IndPDA_pf2.jpg" title="Enlarge picture"> / <img src="http://katalog.we-online.de/media/thumbs2/eisos/thb_IndPDA_pf2.jpg" width="320"></a><p> / Details see: <a href="http://katalog.we-online.de/en/pbs/WE-PDA/">http://katalog.we-online.de/en/pbs/WE-PDA/ / </a><p>Created: 2015-01-30 / <br>2015 (C) Wurth Elektronik
footprint WE-PDA_7345
pins: 1, 2

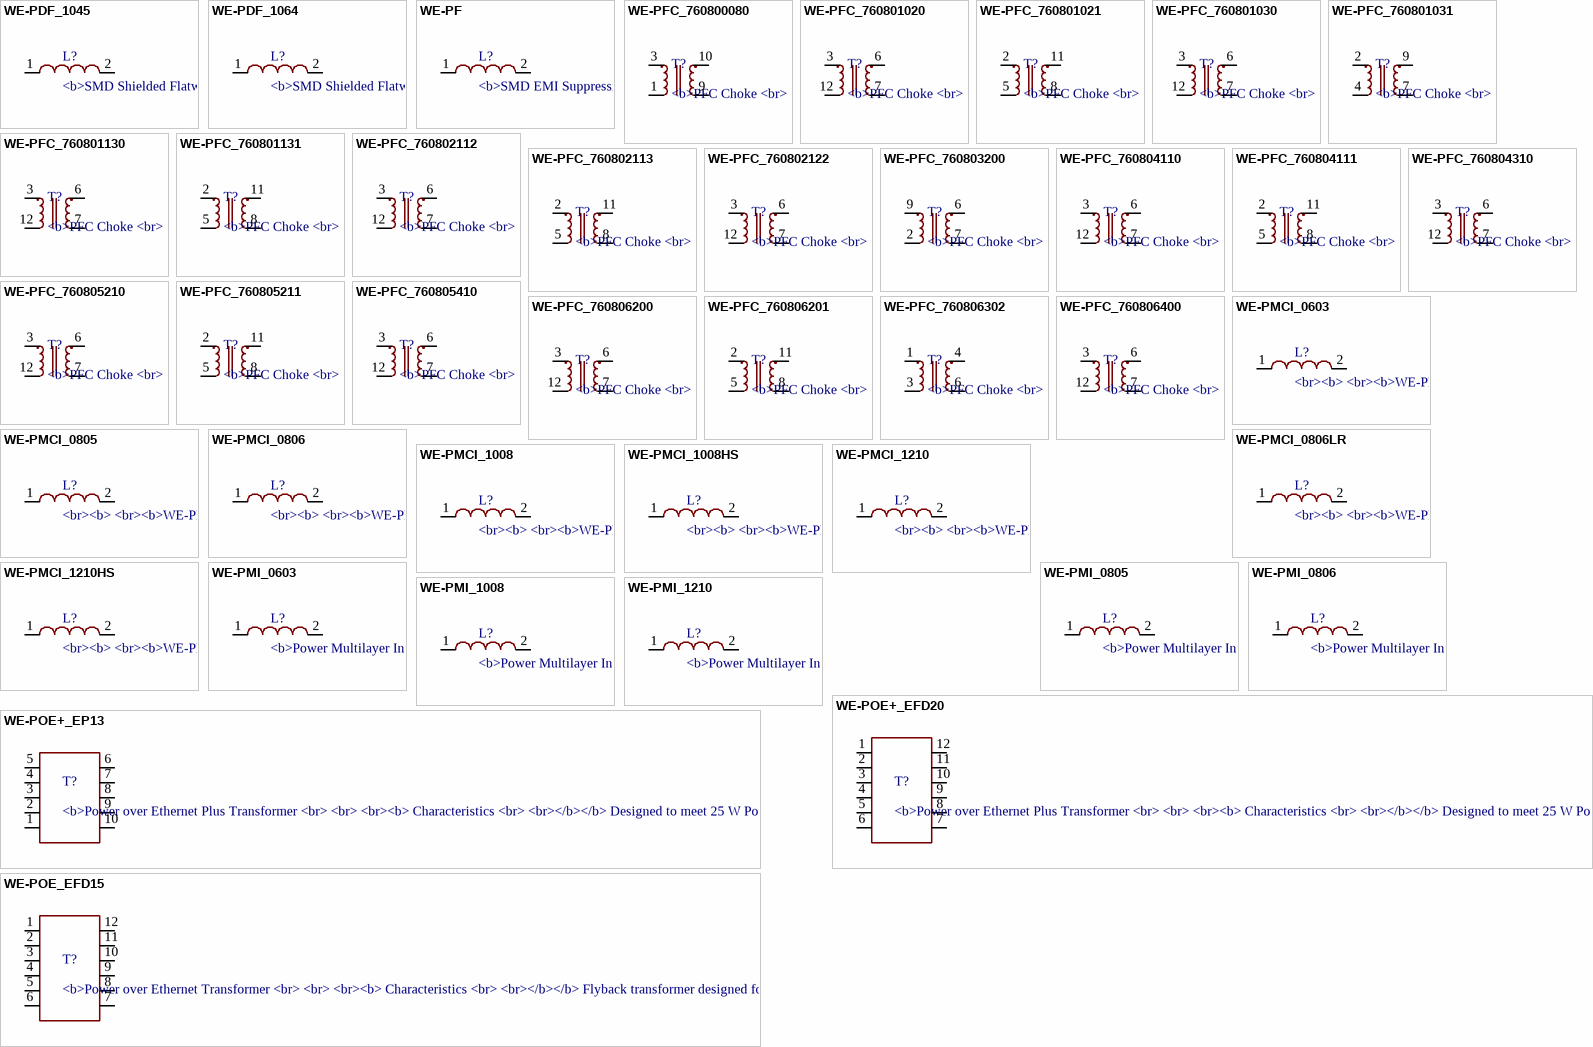
[diagram p25: symbols WE-PDF_1045 to WE-POE_EFD15]

## WE-PDF_1045
designator L?, comment <b>SMD Shielded Flatwire Power Inductor / <br> / <br> / <br><b> Characteristics / <br> / <br></b></b> Core material: NiZn / <br> / <br> Flat wire power inductor / <br> / <br> Advanced operating temperature: –40 °C up to +150 °C / <br> / <br> Magnetically shielded which results in a low leakage field / <br> / <br> Low self-losses / <br> / <br> High saturation current / <br> / <br> Flat wire coil for lower losses at high frequency ranges / <br> / <br> High Self Resonance Frequency / <br> / <br> / <br><b> Applications / <br> / <br></b> Suitable for high frequency switching regulators / <br> / <br> / <br><a href="<br><a href="http://katalog.we-online.de/media/images/eisos/IndPDF_pf2.jpg" title="Enlarge picture"> / <img src="http://katalog.we-online.de/media/images/eisos/IndPDF_pf2.jpg" width="320"></a><p> / Details see: <a href="http://katalog.we-online.de/en/pbs/WE-PDF?">http://katalog.we-online.de/en/pbs/WE-PDF?</a><p> / Updated  by  Dan Xu 2014-07-08<br> / 2014 (C) Wurth Elektronik
footprint WE-PDF
pins: 1, 2